# Altium schematic symbol library CN6x2.Schlib: 1 symbol
Pins are listed as number, name and electrical type; pins without a type are passive.

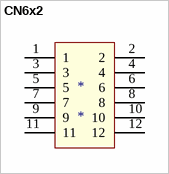
[diagram p0: symbol CN6x2]

## CN6x2
designator *
pins: 1, 2, 3, 4, 5, 6, 7, 8, 9, 10, 11, 12